# Altium schematic symbol library WL-SBRW.SchLib: 7 symbols
Pins are listed as number, name and electrical type; pins without a type are passive.

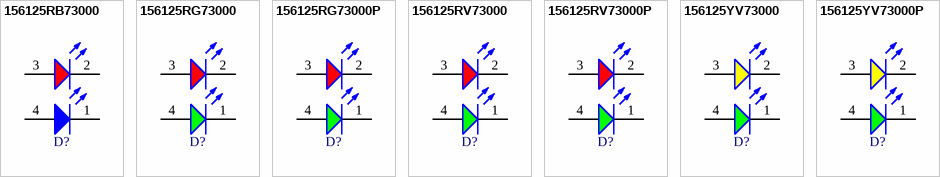
[diagram p0: symbols 156125RB73000 to 156125YV73000P]

## 156125RB73000
designator D?, comment Red & Blue, 120°  (value not drawn)
WL-SBRW SMT Bi-color Waterclear, reverse mount, size 1205, Red & Blue, 120°; Manufacturer Part Number: 156125RB73000; Manufacturer: Wurth Elektronik; Case/Size Code: 1205; Chip Technology: AlInGaP + InGaN; Dominant Wavelength (Blue): 470nm; Dominant Wavelength (Red): 624nm; Forward Voltage (Blue): 3.3V; Forward Voltage (Red): 2V; Luminous Intensity (Blue): 70mcd; Luminous Intensity (Red): 45mcd; Peak Wavelength (Blue): 468nm; Peak Wavelength (Red): 632nm; Category: Signal LEDs; Match Code: WL-SBRW; ComponentLink1Description: Website Link; ComponentLink1URL: https://www.we-online.com/redexpert/article/156125RB73000?ad; ComponentLink2Description: Datasheet Link; ComponentLink2URL: https://www.we-online.com/redexpert/spec/156125RB73000?ad; Mount: Surface Mount; Operating Temperature Max: 85°C; Operating Temperature Min: -40°C; Packaging: Tape and Reel; Length: 3.2mm; Width: 1.2mm; Height: 0.28mm; Emitting Color: Red & Blue; Viewing Angle: 120°
footprint WL-SBRW_1205_reverse mount
simulation model 1205_156125RB73000
pins: 1 K, 2 K, 3 A, 4 A

## 156125RG73000
designator D?, comment Red & Green, 120°  (value not drawn)
WL-SBRW SMT Bi-color Waterclear, reverse mount, size 1205, Red & Green, 120°; Manufacturer Part Number: 156125RG73000; Manufacturer: Wurth Elektronik; Case/Size Code: 1205; Chip Technology: AlInGaP + InGaN; Dominant Wavelength (Green): 525nm; Dominant Wavelength (Red): 624nm; Forward Voltage (Green): 3.3V; Forward Voltage (Red): 2V; Luminous Intensity (Green): 285mcd; Luminous Intensity (Red): 180mcd; Peak Wavelength (Green): 520nm; Peak Wavelength (Red): 632nm; Category: Signal LEDs; Match Code: WL-SBRW; ComponentLink1Description: Website Link; ComponentLink1URL: https://www.we-online.com/redexpert/article/156125RG73000?ad; ComponentLink2Description: Datasheet Link; ComponentLink2URL: https://www.we-online.com/redexpert/spec/156125RG73000?ad; Mount: Surface Mount; Operating Temperature Max: 85°C; Operating Temperature Min: -40°C; Packaging: Tape and Reel; Length: 3.2mm; Width: 1.2mm; Height: 0.28mm; Emitting Color: Red & Green; Viewing Angle: 120°
footprint WL-SBRW_1205_reverse mount
simulation model 1205_156125RG73000
pins: 1 K, 2 K, 3 A, 4 A

## 156125RG73000P
designator D?, comment Red & Green, 120°  (value not drawn)
WL-SBRW SMT Bi-color Waterclear, normal mount, size 1205, Red & Green, 120°; Manufacturer Part Number: 156125RG73000P; Manufacturer: Wurth Elektronik; Case/Size Code: 1205; Chip Technology: AlInGaP + InGaN; Dominant Wavelength (Green): 525nm; Dominant Wavelength (Red): 624nm; Forward Voltage (Green): 3.3V; Forward Voltage (Red): 2V; Luminous Intensity (Green): 285mcd; Luminous Intensity (Red): 180mcd; Peak Wavelength (Green): 520nm; Peak Wavelength (Red): 632nm; Category: Signal LEDs; Match Code: WL-SBRW; ComponentLink1Description: Website Link; ComponentLink1URL: https://www.we-online.com/redexpert/article/156125RG73000P?ad; ComponentLink2Description: Datasheet Link; ComponentLink2URL: https://www.we-online.com/redexpert/spec/156125RG73000P?ad; Mount: Surface Mount; Operating Temperature Max: 85°C; Operating Temperature Min: -40°C; Packaging: Tape and Reel; Length: 3.2mm; Width: 1.2mm; Height: 0.8mm; Emitting Color: Red & Green; Viewing Angle: 120°
footprint WL-SBRW_1205_normal mount
simulation model 1205_156125RG73000P
pins: 1 K, 2 K, 3 A, 4 A

## 156125RV73000
designator D?, comment Red & Bright Green, 120°  (value not drawn)
WL-SBRW SMT Bi-color Waterclear, reverse mount, size 1205, Red & Bright Green, 120°; Manufacturer Part Number: 156125RV73000; Manufacturer: Wurth Elektronik; Case/Size Code: 1205; Chip Technology: AlInGaP; Dominant Wavelength (Bright Green): 571nm; Dominant Wavelength (Red): 624nm; Forward Voltage (Bright Green): 2.1V; Forward Voltage (Red): 2V; Luminous Intensity (Bright Green): 170mcd; Luminous Intensity (Red): 110mcd; Peak Wavelength (Bright Green): 573nm; Peak Wavelength (Red): 632nm; Category: Signal LEDs; Match Code: WL-SBRW; ComponentLink1Description: Website Link; ComponentLink1URL: https://www.we-online.com/redexpert/article/156125RV73000?ad; ComponentLink2Description: Datasheet Link; ComponentLink2URL: https://www.we-online.com/redexpert/spec/156125RV73000?ad; Mount: Surface Mount; Operating Temperature Max: 85°C; Operating Temperature Min: -40°C; Packaging: Tape and Reel; Length: 3.2mm; Width: 1.2mm; Height: 0.28mm; Emitting Color: Red & Bright Green; Viewing Angle: 120°
footprint WL-SBRW_1205_reverse mount
simulation model 1205_156125RV73000
pins: 1 K, 2 K, 3 A, 4 A

## 156125RV73000P
designator D?, comment Red & Bright Green, 120°  (value not drawn)
WL-SBRW SMT Bi-color Waterclear, normal mount, size 1205, Red & Bright Green, 120°; Manufacturer Part Number: 156125RV73000P; Manufacturer: Wurth Elektronik; Case/Size Code: 1205; Chip Technology: AlInGaP; Dominant Wavelength (Bright Green): 571nm; Dominant Wavelength (Red): 624nm; Forward Voltage (Bright Green): 2.1V; Forward Voltage (Red): 2V; Luminous Intensity (Bright Green): 170mcd; Luminous Intensity (Red): 110mcd; Peak Wavelength (Bright Green): 573nm; Peak Wavelength (Red): 632nm; Category: Signal LEDs; Match Code: WL-SBRW; ComponentLink1Description: Website Link; ComponentLink1URL: https://www.we-online.com/redexpert/article/156125RV73000P?ad; ComponentLink2Description: Datasheet Link; ComponentLink2URL: https://www.we-online.com/redexpert/spec/156125RV73000P?ad; Mount: Surface Mount; Operating Temperature Max: 85°C; Operating Temperature Min: -40°C; Packaging: Tape and Reel; Length: 3.2mm; Width: 1.2mm; Height: 0.8mm; Emitting Color: Red & Bright Green; Viewing Angle: 120°
footprint WL-SBRW_1205_normal mount
simulation model 1205_156125RV73000P
pins: 1 K, 2 K, 3 A, 4 A

## 156125YV73000
designator D?, comment Yellow & Bright Green, 120°  (value not drawn)
WL-SBRW SMT Bi-color Waterclear, reverse mount, size 1205, Yellow & Bright Green, 120°; Manufacturer Part Number: 156125YV73000; Manufacturer: Wurth Elektronik; Case/Size Code: 1205; Chip Technology: AlInGaP; Dominant Wavelength (Bright Green): 571nm; Dominant Wavelength (Yellow): 592nm; Forward Voltage (Bright Green): 2.1V; Forward Voltage (Yellow): 2V; Luminous Intensity (Bright Green): 50mcd; Luminous Intensity (Yellow): 70mcd; Peak Wavelength (Bright Green): 573nm; Category: Signal LEDs; Match Code: WL-SBRW; ComponentLink1Description: Website Link; ComponentLink1URL: https://www.we-online.com/redexpert/article/156125YV73000?ad; ComponentLink2Description: Datasheet Link; ComponentLink2URL: https://www.we-online.com/redexpert/spec/156125YV73000?ad; Mount: Surface Mount; Operating Temperature Max: 85°C; Operating Temperature Min: -40°C; Packaging: Tape and Reel; Length: 3.2mm; Width: 1.2mm; Height: 0.28mm; Emitting Color: Yellow & Bright Green; Peak Wavelength (Yellow): 592nm; Viewing Angle: 120°
footprint WL-SBRW_1205_reverse mount
simulation model 1205_156125YV73000
pins: 1 K, 2 K, 3 A, 4 A

## 156125YV73000P
designator D?, comment Yellow & Bright Green, 120°  (value not drawn)
WL-SBRW SMT Bi-color Waterclear, normal mount, size 1205, Yellow & Bright Green, 120°; Manufacturer Part Number: 156125YV73000P; Manufacturer: Wurth Elektronik; Case/Size Code: 1205; Chip Technology: AlInGaP; Dominant Wavelength (Bright Green): 571nm; Dominant Wavelength (Yellow): 592nm; Forward Voltage (Bright Green): 2.1V; Forward Voltage (Yellow): 2V; Luminous Intensity (Bright Green): 50mcd; Luminous Intensity (Yellow): 70mcd; Peak Wavelength (Bright Green): 573nm; Category: Signal LEDs; Match Code: WL-SBRW; ComponentLink1Description: Website Link; ComponentLink1URL: https://www.we-online.com/redexpert/article/156125YV73000P?ad; ComponentLink2Description: Datasheet Link; ComponentLink2URL: https://www.we-online.com/redexpert/spec/156125YV73000P?ad; Mount: Surface Mount; Operating Temperature Max: 85°C; Operating Temperature Min: -40°C; Packaging: Tape and Reel; Length: 3.2mm; Width: 1.2mm; Height: 0.8mm; Emitting Color: Yellow & Bright Green; Peak Wavelength (Yellow): 592nm; Viewing Angle: 120°
footprint WL-SBRW_1205_normal mount
simulation model 1205_156125YV73000P
pins: 1 K, 2 K, 3 A, 4 A